# EAGLE library part MCP1826T-3302E/DC (library MCP1826T (3.3v Regulator))
IC, LDO, 3.3V, 1A,
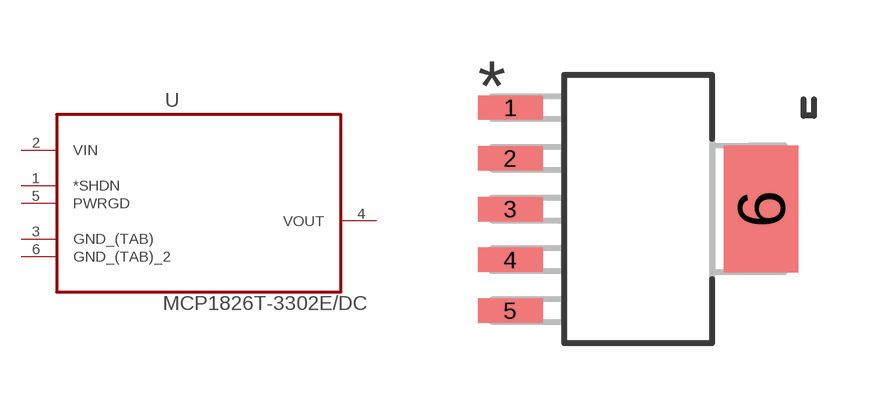
[diagram p0: symbol with the pads of SOT230P700X180-6N; footprint SOT230P700X180-6N]

Designator prefix U

## MCP1826T-3302E/DC (MPN: MCP1826T-3302E/DC; OC_FARNELL: 1578429; OC_NEWARK: 08N6499; PACKAGE: SOT223-5; SUPPLIER: Microchip)  [SOT230P700X180-6N]
1  *SHDN  in
2  VIN  in
3  GND_(TAB)  pas
4  VOUT  out
5  PWRGD  in
6  GND_(TAB)_2  pas

## Footprint SOT230P700X180-6N (pad centres in mm)
smd 1.626 x 0.61: 1 -3.2,2.54; 2 -3.2,1.27; 3 -3.2,0; 4 -3.2,-1.27; 5 -3.2,-2.54
smd 1.854 x 3.175: 6 3.073,0